# EAGLE library part MCP4161 (library MMC Eagle)
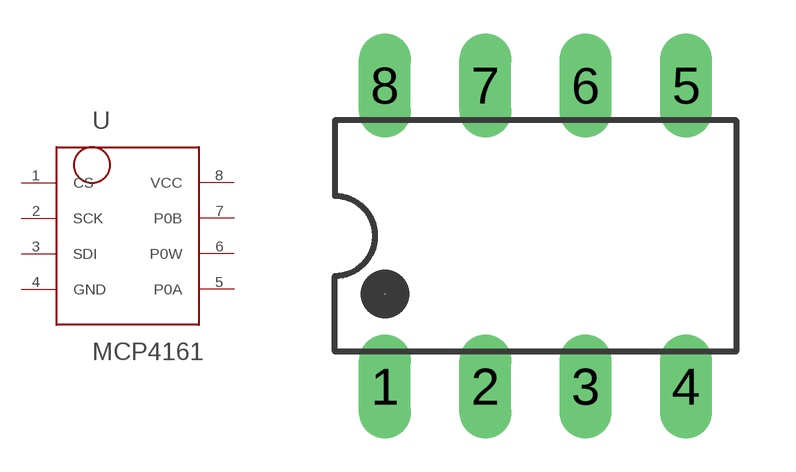
[diagram p7: symbol with the pads of DIL08; footprint DIL08]

Designator prefix -

## MCP4161  [DIL08]
1  CS
2  SCK
3  SDI
4  GND
5  P0A
6  P0W
7  P0B
8  VCC

## Footprint DIL08 (pad centres in mm)
Dual In Line Package
drill 0.813 long: 1 -3.81,-3.81; 2 -1.27,-3.81; 3 1.27,-3.81; 4 3.81,-3.81; 5 3.81,3.81; 6 1.27,3.81; 7 -1.27,3.81; 8 -3.81,3.81